# Altium footprint library sepic24.PcbLib: 11 footprints
Each footprint in its own frame and in the unit in brackets; x right, y up, seen from the top. Pads: shape width x height; smd on the part's side, far side on the other; paste and mask are expansions set on the pad; w line width, h text height; cw(c..) or ccw(c..) is an arc to the next point about the centre after c.
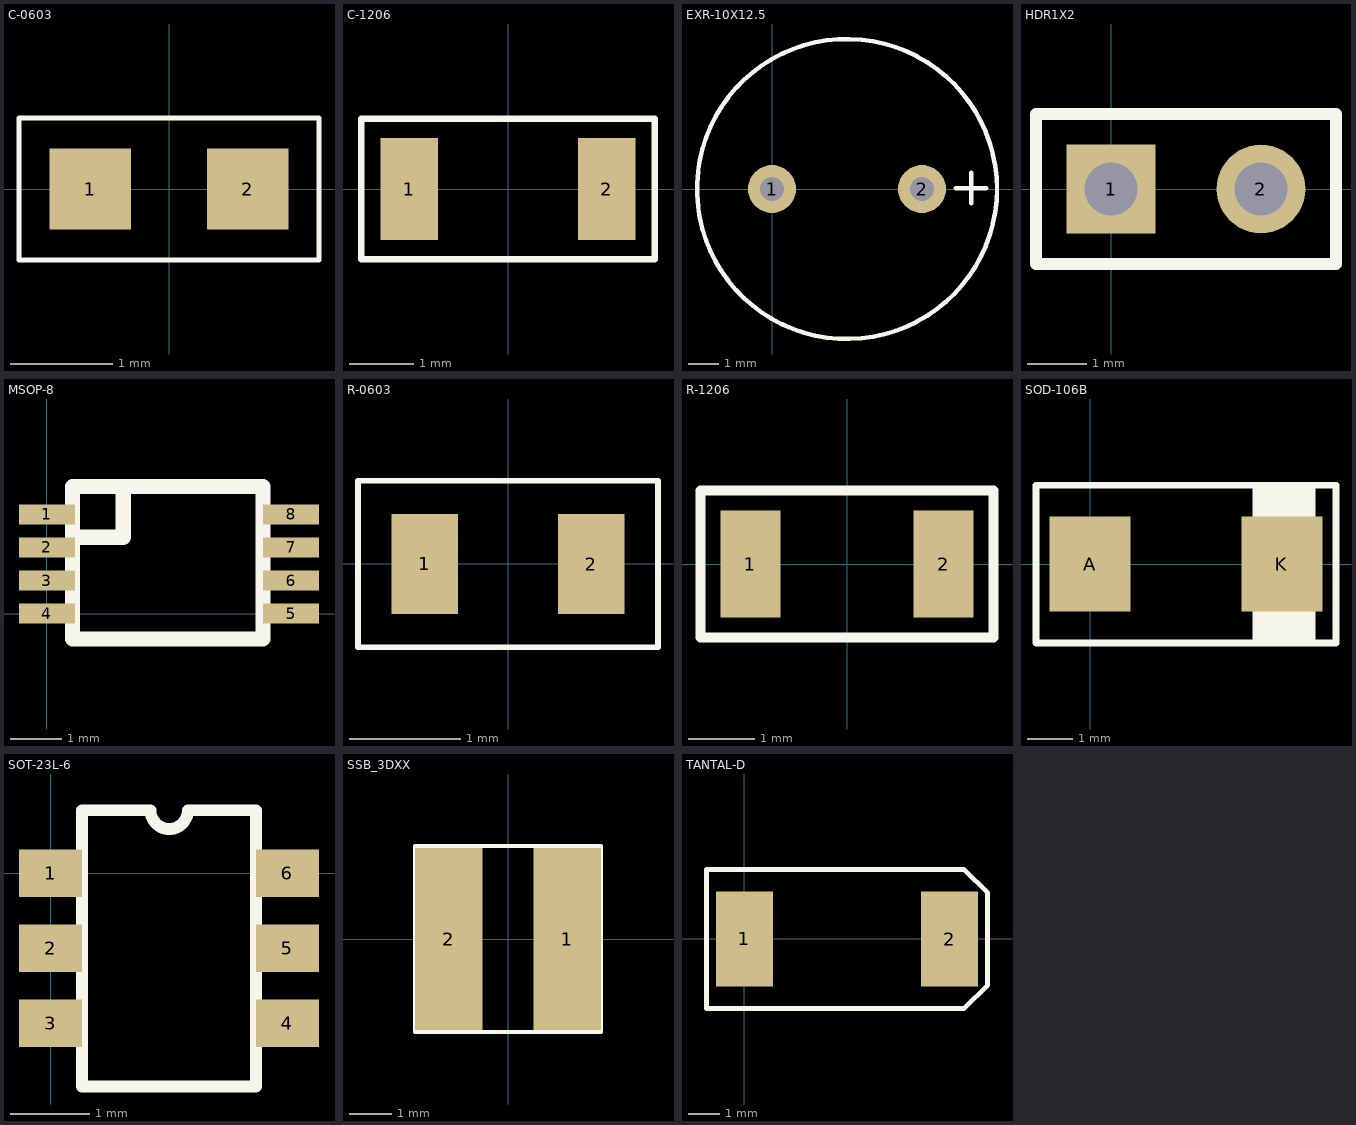
[diagram p0: the footprints below, top view; thin cyan lines are the x and y axes]

## C-0603 [mm]
pads (2):
  rect 0.8x0.8 smd: 1(-0.775,0) 2(0.775,0)
Top Overlay:
  lines w0.05: -1.475,-0.7 -1.475,0 -1.475,0.7 1.475,0.7 1.475,-0.7 -1.475,-0.7

## C-1206 [mm]
pads (2):
  rect 0.9x1.6 smd: 1(-1.55,0) 2(1.55,0)
Top Overlay:
  lines w0.1: -2.3,-1.1 -2.3,0 -2.3,1.1 2.3,1.1 2.3,-1.1 -2.3,-1.1

## EXR-10X12.5 [mm]
pads (2):
  round 1.6 hole 0.8: 1(0,0) 2(5,0)
Top Overlay:
  circle w0.15: c2.5,0 r5
  lines w0.15: 6.132,0.03 7.148,0.03 ; 6.64,-0.478 6.64,0.538

## HDR1X2 [mm] "Connector; Header; 2 Position"
pads (2):
  rect 1.5x1.5 hole 0.9: 1(0,0)
  round 1.5 hole 0.9: 2(2.54,0)
Top Overlay:
  lines w0.2: -1.27,-1.27 3.81,-1.27 3.81,1.27 -1.27,1.27 -1.27,-1.27

## MSOP-8 [mm]
pads (8):
  rect 1.1x0.4 smd: 1(0,1.95) 2(0,1.3) 3(0,0.65) 4(0,0) 5(4.8,0) 6(4.8,0.65) 7(4.8,1.3) 8(4.8,1.95)
Top Overlay:
  lines w0.3: 0.5,1.5 1.5,1.5 1.5,2.5 ; 0.5,-0.5 4.25,-0.5 4.25,2.5 0.5,2.5 0.5,-0.5

## R-0603 [mm]
pads (2):
  rect 0.6x0.9 smd: 1(-0.75,0) 2(0.75,0)
Top Overlay:
  lines w0.05: -1.35,-0.75 -1.35,0 -1.35,0.75 1.35,0.75 1.35,-0.75 -1.35,-0.75

## R-1206 [mm]
pads (2):
  rect 0.9x1.6 smd: 1(-1.45,0) 2(1.45,0)
Top Overlay:
  lines w0.15: -2.2,-1.1 2.2,-1.1 2.2,1.1 -2.2,1.1 -2.2,0 -2.2,-1.1

## SOD-106B [mm]
pads (2):
  rect 1.8x2.1 smd: A(0,0) K(4.25,0)
Top Overlay:
  rectangle: 3.6,-1.746 5,1.754
  lines w0.15: -1.2,-1.75 -1.2,0 -1.2,1.75 5.45,1.75 5.45,-1.75 -1.2,-1.75

## SOT-23L-6 [mm]
pads (6):
  rect 0.8x0.6 smd: 1(0,0) 2(0,-0.95) 3(0,-1.9) 4(3,-1.9) 5(3,-0.95) 6(3,0)
Top Overlay:
  lines w0.15: 0.4,-2.7 2.6,-2.7 2.6,0.8 1.74,0.8 cw(c1.502,0.8) 1.265,0.8 0.4,0.8 0.4,-2.7

## SSB_3DXX [mm]
pads (2):
  rect 1.6x4.3 smd: 1(1.4,0) 2(-1.4,0)
Top Overlay:
  lines w0.1: -2.2,-2.2 2.2,-2.2 2.2,2.2 -2.2,2.2 -2.2,-2.2

## TANTAL-D [mm]
pads (2):
  rect 1.8x3 smd: 1(0,0) 2(6.5,0)
Top Overlay:
  lines w0.15: 6.95,-2.2 -1.2,-2.2 -1.2,0 -1.2,2.2 6.95,2.2 ; 6.967,-2.2 7.7,-1.467 7.7,1.467 6.967,2.2